# Altium schematic symbol library STM32F091RCY6TR.SchLib: 1 symbol
Pins are listed as number, name and electrical type; pins without a type are passive.

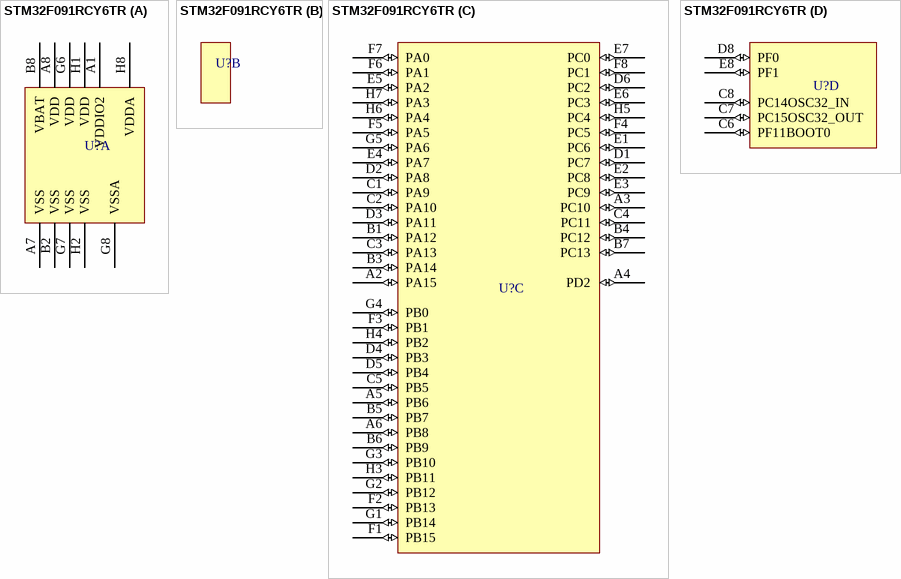
[diagram p0: symbol STM32F091RCY6TR]

## STM32F091RCY6TR
designator U?  (value not drawn)
Mainstream Arm Cortex-M0 Access line MCU with 256 Kbytes of Flash memory, 48 MHz CPU, CAN and CEC functions
part A pins: A1 VDDIO2 (power), A7 VSS (power), A8 VDD (power), B2 VSS (power), B8 VBAT (power), G6 VDD (power), G7 VSS (power), G8 VSSA (power), H1 VDD (power), H2 VSS (power), H8 VDDA (power)
part C pins: A2 PA15 (io), A3 PC10 (io), A4 PD2 (io), A5 PB6 (io), A6 PB8 (io), B1 PA12 (io), B3 PA14 (io), B4 PC12 (io), B5 PB7 (io), B6 PB9 (io), B7 PC13 (io), C1 PA9 (io), C2 PA10 (io), C3 PA13 (io), C4 PC11 (io), C5 PB5 (io), D1 PC7 (io), D2 PA8 (io), D3 PA11 (io), D4 PB3 (io), D5 PB4 (io), D6 PC2 (io), E1 PC6 (io), E2 PC8 (io), E3 PC9 (io), E4 PA7 (io), E5 PA2 (io), E6 PC3 (io), E7 PC0 (io), F1 PB15 (io), F2 PB13 (io), F3 PB1 (io), F4 PC5 (io), F5 PA5 (io), F6 PA1 (io), F7 PA0 (io), F8 PC1 (io), G1 PB14 (io), G2 PB12 (io), G3 PB10 (io), G4 PB0 (io), G5 PA6 (io), H3 PB11 (io), H4 PB2 (io), H5 PC4 (io), H6 PA4 (io), H7 PA3 (io)
part D pins: C6 PF11BOOT0 (io), C7 PC15OSC32_OUT (io), C8 PC14OSC32_IN (io), D8 PF0 (io), E8 PF1 (io)